# Altium footprint library HLK-7688A.PcbLib: 1 footprints
Each footprint in its own frame and in the unit in brackets; x right, y up, seen from the top. Pads: shape width x height; smd on the part's side, far side on the other; paste and mask are expansions set on the pad; w line width, h text height; cw(c..) or ccw(c..) is an arc to the next point about the centre after c.
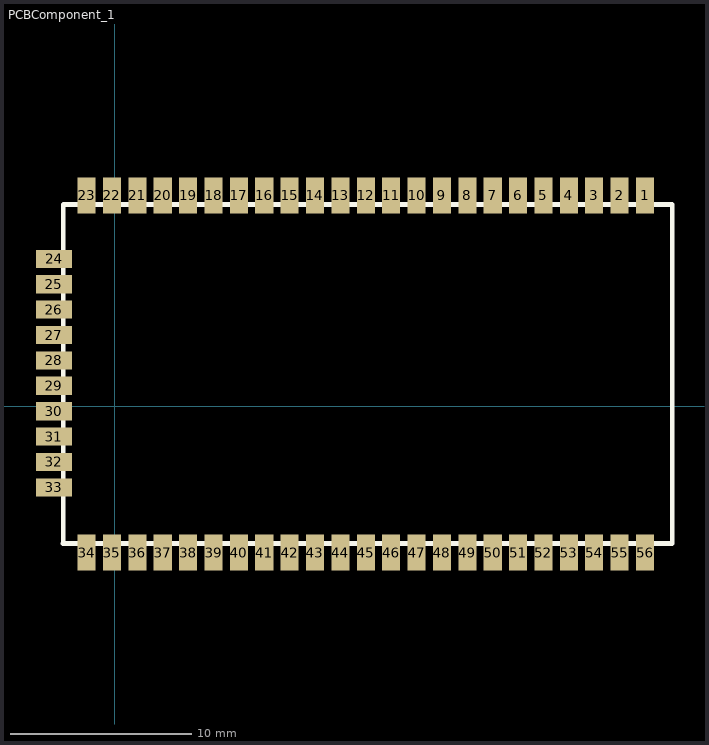
[diagram p0: the footprint, top view; thin cyan lines are the x and y axes]

## PCBComponent_1 [mm]
pads (56):
  rect 1x2 smd: 1(29.256,11.628) 2(27.856,11.628) 3(26.452,11.628) 4(25.055,11.628) 5(23.655,11.628) 6(22.253,11.628) 7(20.853,11.628) 8(19.454,11.628) 9(18.052,11.628) 10(16.655,11.628) 11(15.253,11.628) 12(13.856,11.628) 13(12.454,11.628) 14(11.052,11.628) 15(9.655,11.628) 16(8.255,11.628) 17(6.855,11.628) 18(5.456,11.628) 19(4.056,11.628) 20(2.652,11.628) 21(1.255,11.628) 22(-0.147,11.628) 23(-1.544,11.628) 34(-1.544,-8.072) 35(-0.147,-8.07) 36(1.255,-8.07) 37(2.652,-8.07) 38(4.056,-8.07) 39(5.456,-8.07) 40(6.855,-8.07) 41(8.255,-8.07) 42(9.655,-8.07) 43(11.052,-8.07) 44(12.454,-8.07) 45(13.856,-8.07) 46(15.253,-8.07) 47(16.655,-8.07) 48(18.052,-8.07) 49(19.454,-8.07) 50(20.853,-8.07) 51(22.253,-8.07) 52(23.655,-8.07) 53(25.055,-8.07) 54(26.452,-8.07) 55(27.856,-8.07) 56(29.256,-8.07)
  rect 2x1 smd: 24(-3.344,8.127) 25(-3.345,6.728) 26(-3.345,5.329) 27(-3.345,3.929) 28(-3.345,2.53) 29(-3.345,1.13) 30(-3.345,-0.275) 31(-3.345,-1.674) 32(-3.348,-3.074) 33(-3.345,-4.473)
Top Overlay:
  lines w0.254: -2.846,-7.572 30.754,-7.572 30.754,10.457 30.754,11.128 30.106,11.128 -2.357,11.128 -2.845,11.128 -2.845,9.268 -2.845,-7.572